# Altium schematic symbol library Secure_Chip.SchLib: 2 symbols
Pins are listed as number, name and electrical type; pins without a type are passive.

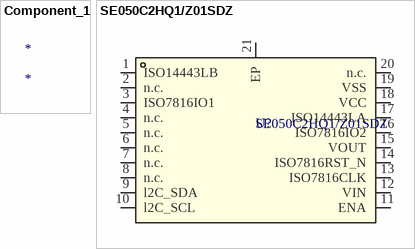
[diagram p0: symbols Component_1 to SE050C2HQ1/Z01SDZ]

## Component_1
designator *

## SE050C2HQ1/Z01SDZ
designator U?
加密算法:SHA-256；ECC；DES；AES;接口类型:I2C;; Manufacturer: NXP(恩智浦); SEEX_AUTHOR: ref42; SEEX_COMPONENT_ID: C2659345; Interface: I2C; Standby Current (Max): 450uA; Voltage - Supply: 1.62V~3.6V; SEEX_PROJECT_URL: https://github.com/ref42/seex; Footprint: WQFN-20_L3.0-W3.0-P0.40-BL-EP1.7; Algorithm: SHA-256；ECC；DES；AES; Datasheet: https://www.nxp.com/docs/en/data-sheet/SE050-DATASHEET.pdf; Features: 安全密钥存储；防破解硬件防护; JLCPCB Part Class: Extended Part; LCSC Part Name: 即插即用安全元件; Manufacturer Part: SE050C2HQ1/Z01SDZ; Operating Temperature: -40℃~+105℃; Supplier: LCSC; Supplier Footprint: WQFN-20-EP(3x3); Supplier Part: C2659345
footprint WQFN-20_L3.0-W3.0-P0.40-BL-EP1.7 (WQFN-20-EP(3x3); QFN-20-EP(3x3); WQFN-20; WQFN-20_L3.0-W3.0-P0.40-BL-EP1.7; WQFN-20_L3.0-W3.0-P0.40-BL-EP1; WQEN20; QFN-20(3x3); WBQFN-20-EP(3x3); QFN-20; WQFN-20L(3x3))
pins: 1 ISO14443LB, 2 n.c., 3 ISO7816IO1, 4 n.c., 5 n.c., 6 n.c., 7 n.c., 8 n.c., 9 l2C_SDA, 10 l2C_SCL, 11 ENA, 12 VIN, 13 ISO7816CLK, 14 ISO7816RST_N, 15 VOUT, 16 ISO7816IO2, 17 ISO14443LA, 18 VCC, 19 VSS, 20 n.c., 21 EP